# Altium footprint library SIMCOM.PcbLib: 1 footprints
Each footprint in its own frame and in the unit in brackets; x right, y up, seen from the top. Pads: shape width x height; smd on the part's side, far side on the other; paste and mask are expansions set on the pad; w line width, h text height; cw(c..) or ccw(c..) is an arc to the next point about the centre after c.
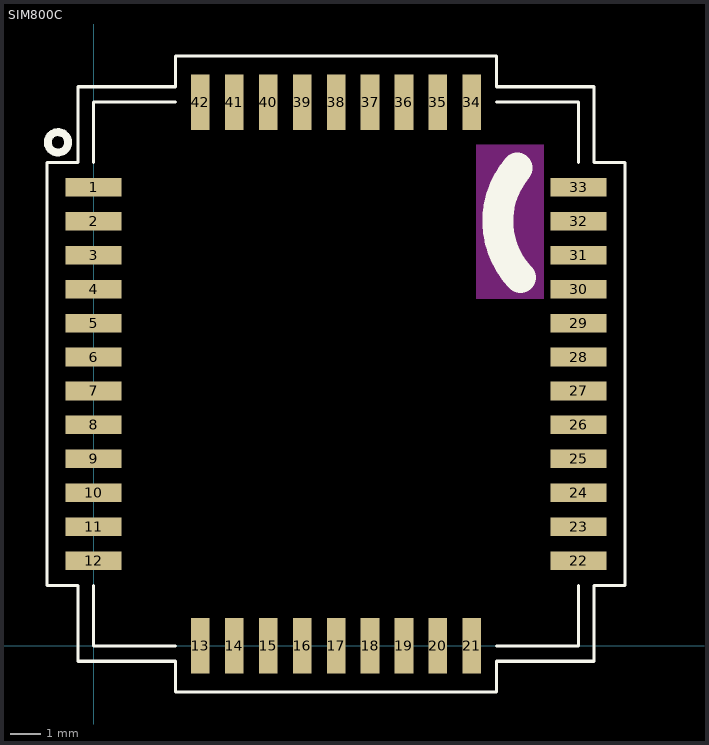
[diagram p0: the footprint, top view; thin cyan lines are the x and y axes]

## SIM800C [mm] "SIM800C"
height 2.5
pads (42):
  rect 1.8x0.6 smd: 1(0,14.85) 2(0,13.75) 3(0,12.65) 4(0,11.55) 5(0,10.45) 6(0,9.35) 7(0,8.25) 8(0,7.15) 9(0,6.05) 10(0,4.95) 11(0,3.85) 12(0,2.75) 22(15.7,2.75) 23(15.7,3.85) 24(15.7,4.95) 25(15.7,6.05) 26(15.7,7.15) 27(15.7,8.25) 28(15.7,9.35) 29(15.7,10.45) 30(15.7,11.55) 31(15.7,12.65) 32(15.7,13.75) 33(15.7,14.85)
  rect 0.6x1.8 smd: 13(3.45,0) 14(4.55,0) 15(5.65,0) 16(6.75,0) 17(7.85,0) 18(8.95,0) 19(10.05,0) 20(11.15,0) 21(12.25,0) 34(12.25,17.6) 35(11.15,17.6) 36(10.05,17.6) 37(8.95,17.6) 38(7.85,17.6) 39(6.75,17.6) 40(5.65,17.6) 41(4.55,17.6) 42(3.45,17.6)
Top Overlay:
  circle w0.254: c-1.15,16.3 r0.329
  lines w0.1: 0,1.95 0,0 2.65,0 ; 0,15.65 0,17.6 2.65,17.6 ; 13.05,0 15.7,0 15.7,1.95 ; 13.05,17.6 15.7,17.6 15.7,15.65 ; -0.5,-0.5 2.65,-0.5 2.65,-1.5 13.05,-1.5 13.05,-0.5 16.2,-0.5 16.2,1.95 17.2,1.95 17.2,15.65 16.2,15.65 16.2,18.1 13.05,18.1 13.05,19.1 2.65,19.1 2.65,18.1 -0.5,18.1 ; -0.5,-0.5 -0.5,-0.5 ; -0.5,-0.5 -0.5,1.95 -1.5,1.95 -1.5,15.65 -0.5,15.65 -0.5,18.1 ; -0.5,18.1 -0.5,18.1
  lines w1: 13.718,15.463 ccw(c15.725,13.75) 13.822,11.922
Keep-Out Layer:
  rectangle: 12.375,11.225 14.575,16.225